# EAGLE library part 5103308-1 (library RoboJackets-Connectors)
10pos Header Through Hole
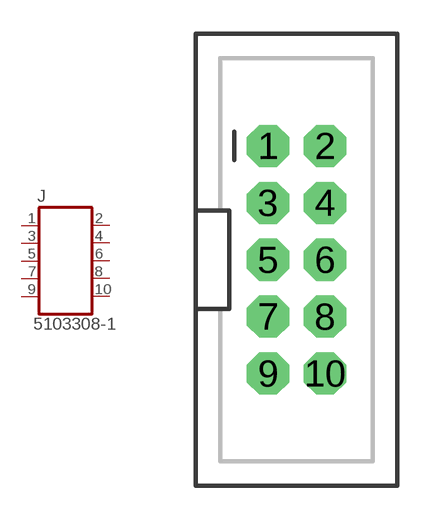
[diagram p11: symbol with the pads of 5103308-1; footprint 5103308-1]

Designator prefix J

## 5103308-1  [5103308-1]
1  1  pas
2  VCC  pas
3  NC  pas
4  GND  pas
5  RESET  pas
6  GND  pas
7  SCK  pas
8  GND  pas
9  MISO  pas
10  GND  pas

## Footprint 5103308-1 (pad centres in mm)
drill 1.016 pad 1.88 octagon: 1 -1.27,5.08; 2 1.27,5.08; 3 -1.27,2.54; 4 1.27,2.54; 5 -1.27,0; 6 1.27,0; 7 -1.27,-2.54; 8 1.27,-2.54; 9 -1.27,-5.08; 10 1.27,-5.08